# EAGLE library part AM26C32CD (library AM26C32CD)
AM26C32CD, Quad Line Receiver, RS-422, V.11 10Mbit/s Differential 5V 16-Pin SOIC <https://componentsearchengine.com/Images/3/AM26C32CD.gif> Source: Datasheet <http://www.ti.com/lit/ds/symlink/am26c32.pdf>
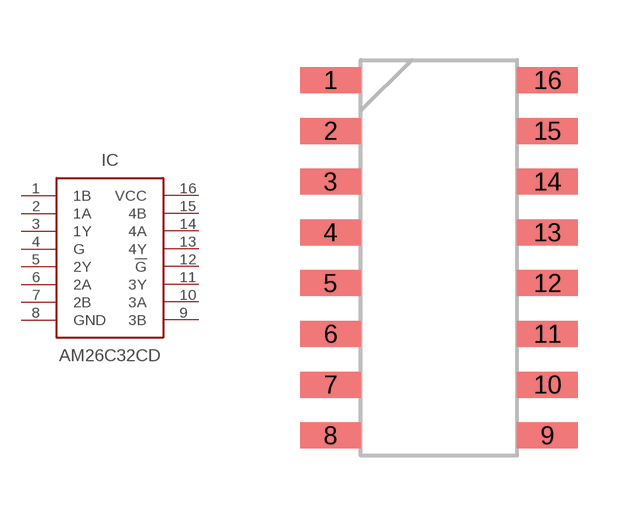
[diagram p0: symbol with the pads of SOIC127P600X175-16N; footprint SOIC127P600X175-16N]

Designator prefix IC

## AM26C32CD (DESCRIPTION: AM26C32CD, Quad Line Receiver, RS-422, V.11 10Mbit/s Differential 5V 16-Pin SOIC; HEIGHT: 1.75mm; MANUFACTURER_NAME: Texas Instruments; MANUFACTURER_PART_NUMBER: AM26C32CD; RS_PART_NUMBER: 5170542; SUPPLIER_NAME: RS)  [SOIC127P600X175-16N]
1  1B  pas
2  1A  pas
3  1Y  pas
4  G  pas
5  2Y  pas
6  2A  pas
7  2B  pas
8  GND  pwr
9  3B  pas
10  3A  pas
11  3Y  pas
12  !G  pas
13  4Y  pas
14  4A  pas
15  4B  pas
16  VCC  pwr

## Footprint SOIC127P600X175-16N (pad centres in mm)
D(R-PDSO-G16)
smd 1.525 x 0.65: 1 -2.712,4.445; 2 -2.712,3.175; 3 -2.712,1.905; 4 -2.712,0.635; 5 -2.712,-0.635; 6 -2.712,-1.905; 7 -2.712,-3.175; 8 -2.712,-4.445; 9 2.712,-4.445; 10 2.712,-3.175; 11 2.712,-1.905; 12 2.712,-0.635; 13 2.712,0.635; 14 2.712,1.905; 15 2.712,3.175; 16 2.712,4.445